# Altium schematic symbol library Components - 26.03.24 - 17.25.SchLib: 1 symbol
Pins are listed as number, name and electrical type; pins without a type are passive.

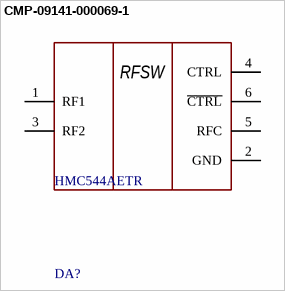
[diagram p0: symbol CMP-09141-000069-1]

## CMP-09141-000069-1
designator DA?, comment HMC544AETR
IC RF SWITCH SPDT 4GHZ SOT26; Max Power Dissipation: 574mW; Impedance: 50R; P1dB: 39dBm; IIP3: 60dBm; Contact Plating: Tin; Mount: Surface Mount; Number of Pins: 6; REACH SVHC: No SVHC; Packaging: Cut Tape; Case/Package: SOT-26; Throw Configuration: SPDT; RoHS Compliant: Yes; Min Operating Temperature: -40°C; Max Frequency: 4GHz; Lead Free: Contains Lead; Max Operating Temperature: 85°C
footprint FP-RJ-6-IPC_C
footprint FP-RJ-6-IPC_A
footprint FP-RJ-6-IPC_B
pins: 1 RF1, 2 GND, 3 RF2, 4 CTRL, 5 RFC, 6 ~{CTRL}
text: RFSW